# Altium footprint library PcbLib1.PcbLib: 123 footprints (part 8 of 8)
Each footprint in its own frame and in the unit in brackets; x right, y up, seen from the top. Pads: shape width x height; smd on the part's side, far side on the other; paste and mask are expansions set on the pad; w line width, h text height; cw(c..) or ccw(c..) is an arc to the next point about the centre after c.
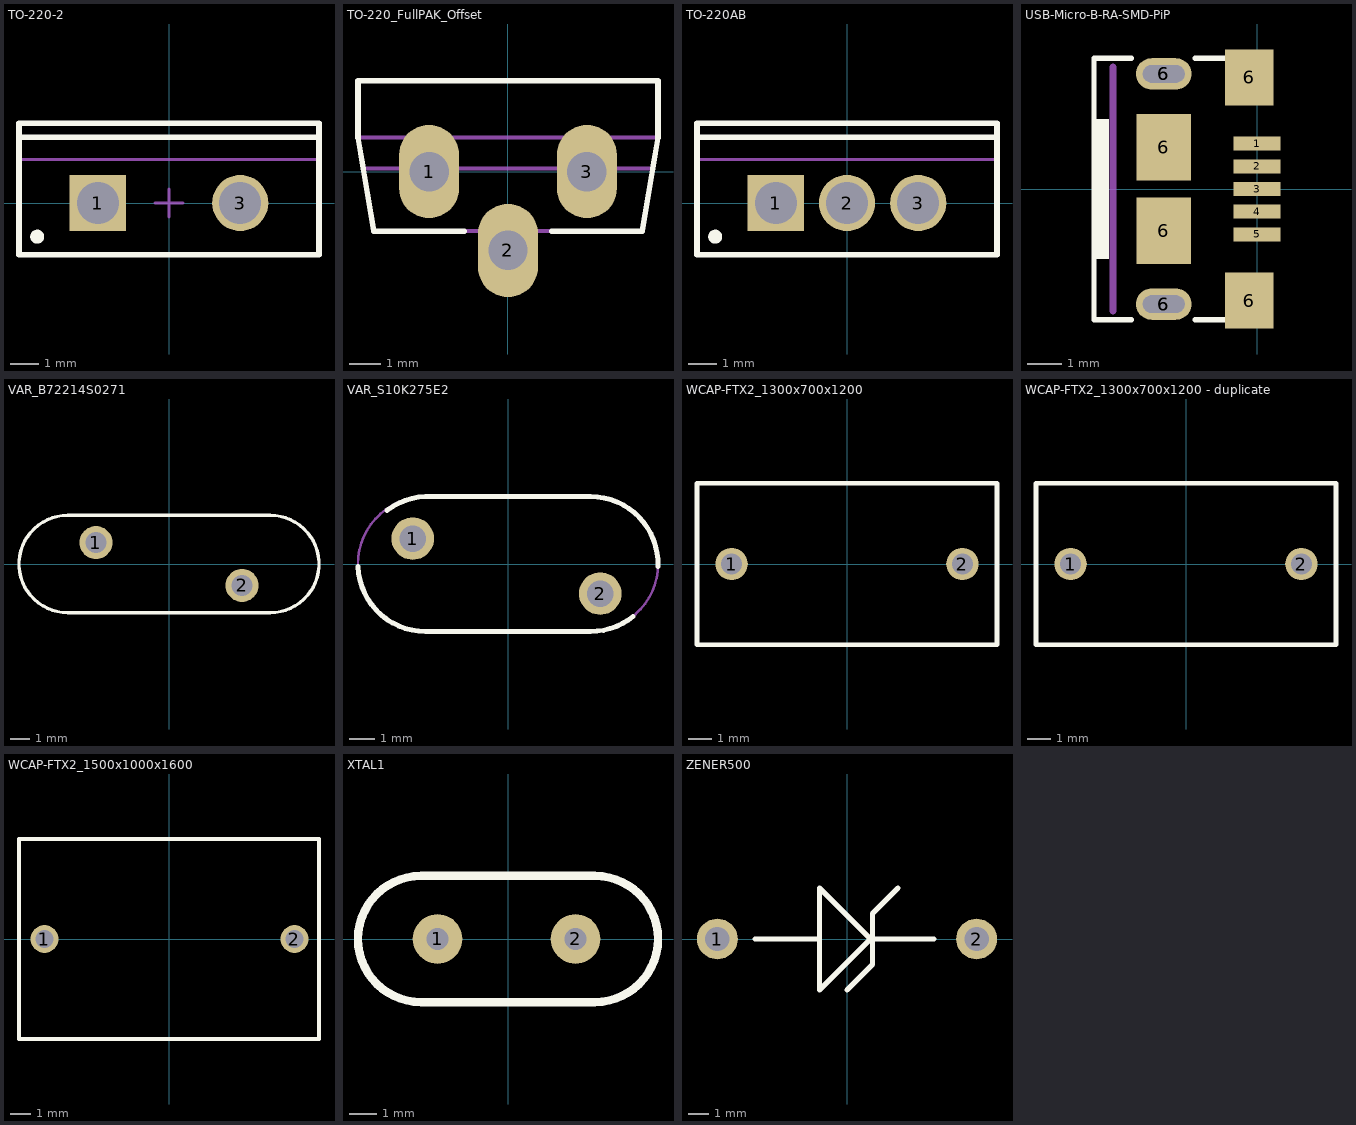
[diagram p7: the footprints below, top view; thin cyan lines are the x and y axes]

## TO-220-2 [mm] "TO, Thru-Hole, Vertical, Heatsink Mounted; 3 In-Line Leads; Pitch 2.54 mm"
height 19.3
pads (2):
  rect 2x2 hole 1.5: 1(-2.54,0)
  round 2 hole 1.5: 3(2.54,0)
Top Overlay:
  circle w0.25: c-4.7,-1.2 r0.125
  lines w0.2: -5.35,2.35 5.35,2.35 ; -5.35,-1.85 -5.35,2.85 5.35,2.85 5.35,-1.85 -5.35,-1.85
Mechanical 13:
  lines w0.1: -5.35,1.55 5.35,1.55 ; -5.35,-1.85 5.35,-1.85 5.35,2.85 -5.35,2.85 -5.35,-1.85
Mechanical 15:
  lines w0.1: -0.5,0 0.5,0 ; 0,-0.5 0,0.5
3D body: height 12.9, standoff 4, extent -5.4,-1.9 5.4,2.9
3D body: height 19.3, standoff 12.9, extent -5.349,1.551 5.349,2.849

## TO-220_FullPAK_Offset [mm] "Infineon  PG-TO220-3-31"
height 19.4
pads (3):
  oval 1.93x3 hole 1.27: 1(-2.54,0) 2(0,-2.54) 3(2.54,0)
Top Overlay:
  lines w0.178: -4.655,0.095 -4.825,1.095 ; -4.325,-1.915 -1.4,-1.915 ; -4.325,-1.915 -4.825,1.085 -4.825,1.095 ; 1.4,-1.915 4.325,-1.915 4.825,1.085 4.825,1.095 ; 4.655,0.095 4.825,1.095 ; -4.825,1.095 -4.825,2.915 4.825,2.915 4.825,1.095
Mechanical 5:
  lines w0.127: -0.89,-1.915 -0.89,-2.058 -0.89,-2.853 0.89,-2.853 0.89,-1.915 ; -4.825,1.095 -4.825,2.915 4.825,2.915 4.825,1.095 ; -4.825,1.095 4.825,1.095 ; -4.825,1.095 -4.655,0.095 4.655,0.095 4.825,1.095 ; -4.825,1.095 -4.825,1.085 -4.325,-1.915 4.325,-1.915 4.825,1.085 4.825,1.095
3D body: height 22.91, standoff -3.95, extent -4.825,-2.845 4.825,2.915

## TO-220AB [mm] "TO, Thru-Hole, Vertical, Heatsink Mounted; 3 In-Line Leads; Pitch 2.54 mm"
height 19.3
pads (3):
  rect 2x2 hole 1.5: 1(-2.54,0)
  round 2 hole 1.5: 2(0,0) 3(2.54,0)
Top Overlay:
  circle w0.25: c-4.7,-1.2 r0.125
  lines w0.2: -5.35,2.35 5.35,2.35 ; -5.35,-1.85 -5.35,2.85 5.35,2.85 5.35,-1.85 -5.35,-1.85
Mechanical 13:
  lines w0.1: -5.35,1.55 5.35,1.55 ; -5.35,-1.85 5.35,-1.85 5.35,2.85 -5.35,2.85 -5.35,-1.85
Mechanical 15:
  lines w0.1: -0.5,0 0.5,0 ; 0,-0.5 0,0.5
3D body: height 12.9, standoff 4, extent -5.4,-1.9 5.4,2.9
3D body: height 19.3, standoff 12.9, extent -5.349,1.551 5.349,2.849

## USB-Micro-B-RA-SMD-PiP [mm] "Micro USB B SMT"
height 3
pads (13):
  rect 1.35x0.4 smd: 1(0,1.3) 2(0,0.65) 3(0,0) 4(0,-0.65) 5(0,-1.3)
  oval 1.6x0.9 hole 0.5 slot 1.2 at 0 deg: 6(-2.675,-3.3) 6(-2.675,3.3)
  oval 2x1.5 on Top Paste: 6(-2.675,-3.3) 6(-2.675,3.3)
  rect 1.55x1.9 smd: 6(-2.675,-1.2) 6(-2.675,1.2)
  rect 1.4x1.6 smd: 6(-0.225,-3.2) 6(-0.225,3.2)
Top Overlay:
  rectangle: -4.75,-2 -4.25,2
  lines w0.152: -3.6,-3.75 -4.675,-3.75 -4.675,3.75 -3.6,3.75 ; -1.775,-3.75 0.25,-3.75 0.25,-3.275 ; -1.775,3.75 0.25,3.75 0.25,3.275
Mechanical 15:
  lines w0.2: -4.125,-3.5 -4.125,3.5
3D body: height 2.72, standoff -0.59, extent -5.28,-4.1 0.15,4.1

## VAR_B72214S0271 [mm] "EPCOS"
height 18.5
pads (2):
  round 1.7 hole 1.067: 1(-3.75,1.1) 2(3.75,-1.1)
Top Overlay:
  lines w0.17: -5.2,-2.5 cw(c-5.2,0) -5.2,2.5 5.2,2.5 cw(c5.2,0) 5.2,-2.5 -5.2,-2.5
Mechanical 5:
  lines w0.1: -5.3,-2.5 5.2,-2.5 ccw(c5.2,0) 5.2,2.5 -5.3,2.5 ; -5.2,-2.5 cw(c-5.2,0) -5.2,2.5
  text ".Designator" at -0.635,-0.381 h0.89
3D body: height 18.48, standoff 3.02, extent -7.739,-2.5 7.7,2.5
3D body: height 6, standoff -2, extent -4.172,0.676 -3.325,1.524
3D body: height 6, standoff -2, extent 3.328,-1.524 4.175,-0.676

## VAR_S10K275E2 [mm] "EPCOS"
height 14.5
pads (2):
  round 1.7 hole 1.067: 1(-3.81,1.016) 2(3.69,-1.184)
Top Overlay:
  lines w0.2: -5.998,-0.104 ccw(c-3.3,0) -3.3,-2.7 3.3,-2.7 ccw(c3.3,0) 4.999,-2.099 ; -4.836,2.147 cw(c-3.196,0.002) -3.3,2.7 3.3,2.7 cw(c3.3,0) 5.998,-0.1
Mechanical 5:
  lines w0.1: -3.3,-2.7 cw(c-3.3,0) -3.3,2.7 3.3,2.7 cw(c3.3,0) 3.3,-2.7 -3.3,-2.7
3D body: height 14.99, standoff 3.01, extent -5.976,-2.7 5.976,2.7
3D body: height 7, standoff -3, extent 3.328,-1.524 4.175,-0.676
3D body: height 7, standoff -3, extent -4.172,0.676 -3.325,1.524

## WCAP-FTX2_1300x700x1200 [mm] "TH, 2-Leads, Body 13x7mm, Pin Spacing 10mm"
height 12.5
pads (2):
  round 1.4 hole 0.9: 1(-5,0) 2(5,0)
Top Overlay:
  lines w0.2: -6.5,-3.5 6.5,-3.5 6.5,3.5 -6.5,3.5 -6.5,-3.5
Mechanical 5:
  lines w0.1: -6.5,-3.5 -6.5,3.5 6.5,3.5 6.5,-3.5 -6.5,-3.5
3D body: height 12.05, standoff -19.95, extent -6.5,-3.5 6.5,3.5

## WCAP-FTX2_1300x700x1200 - duplicate [mm] "TH, 2-Leads, Body 13x7mm, Pin Spacing 10mm"
height 12.5
pads (2):
  round 1.4 hole 0.9: 1(-5,0) 2(5,0)
Top Overlay:
  lines w0.2: -6.5,-3.5 6.5,-3.5 6.5,3.5 -6.5,3.5 -6.5,-3.5
Mechanical 5:
  lines w0.1: -6.5,-3.5 -6.5,3.5 6.5,3.5 6.5,-3.5 -6.5,-3.5
3D body: height 12.05, standoff -19.95, extent -6.5,-3.5 6.5,3.5

## WCAP-FTX2_1500x1000x1600 [mm] "TH, 2-Leads, Body 15x10mm, Pin Spacing 12.5mm"
height 16.5
pads (2):
  round 1.4 hole 0.9: 1(-6.25,0) 2(6.25,0)
Top Overlay:
  lines w0.2: -7.525,-5 7.475,-5 7.475,5 -7.525,5 -7.525,-5
Mechanical 5:
  lines w0.1: -7.525,-5 -7.525,5 7.475,5 7.475,-5 -7.525,-5
3D body: height 16, standoff -20, extent -7.5,-5 7.5,5

## XTAL1 [mm]
pads (2):
  round 1.8 hole 0.8: 1(-2.552,0.001) 2(2.448,0.001)
Top Overlay:
  lines w0.305: -3.15,-2.286 cw(c-3.15,0) -3.15,2.286 3.15,2.286 cw(c3.15,0) 3.15,-2.286 -3.15,-2.286
3D body: height 3.63, standoff -1.97, extent -5.551,-2.325 5.621,2.348

## ZENER500 [mm]
pads (2):
  round 2 hole 1.2: 1(-6.35,0) 2(6.35,0)
Top Overlay:
  lines w0.254: -4.5,0 -1.4,0 ; 0,-2.5 1.25,-1.25 1.25,1.25 2.5,2.5 ; 4.25,0 1.15,0 ; 1.15,0 -1.35,2.5 -1.35,-2.5 1.15,0